# Altium footprint library CONN_HDR_2.54MM_RA_SMD.PcbLib: 56 footprints (part 4 of 4)
Each footprint in its own frame and in the unit in brackets; x right, y up, seen from the top. Pads: shape width x height; smd on the part's side, far side on the other; paste and mask are expansions set on the pad; w line width, h text height; cw(c..) or ccw(c..) is an arc to the next point about the centre after c.
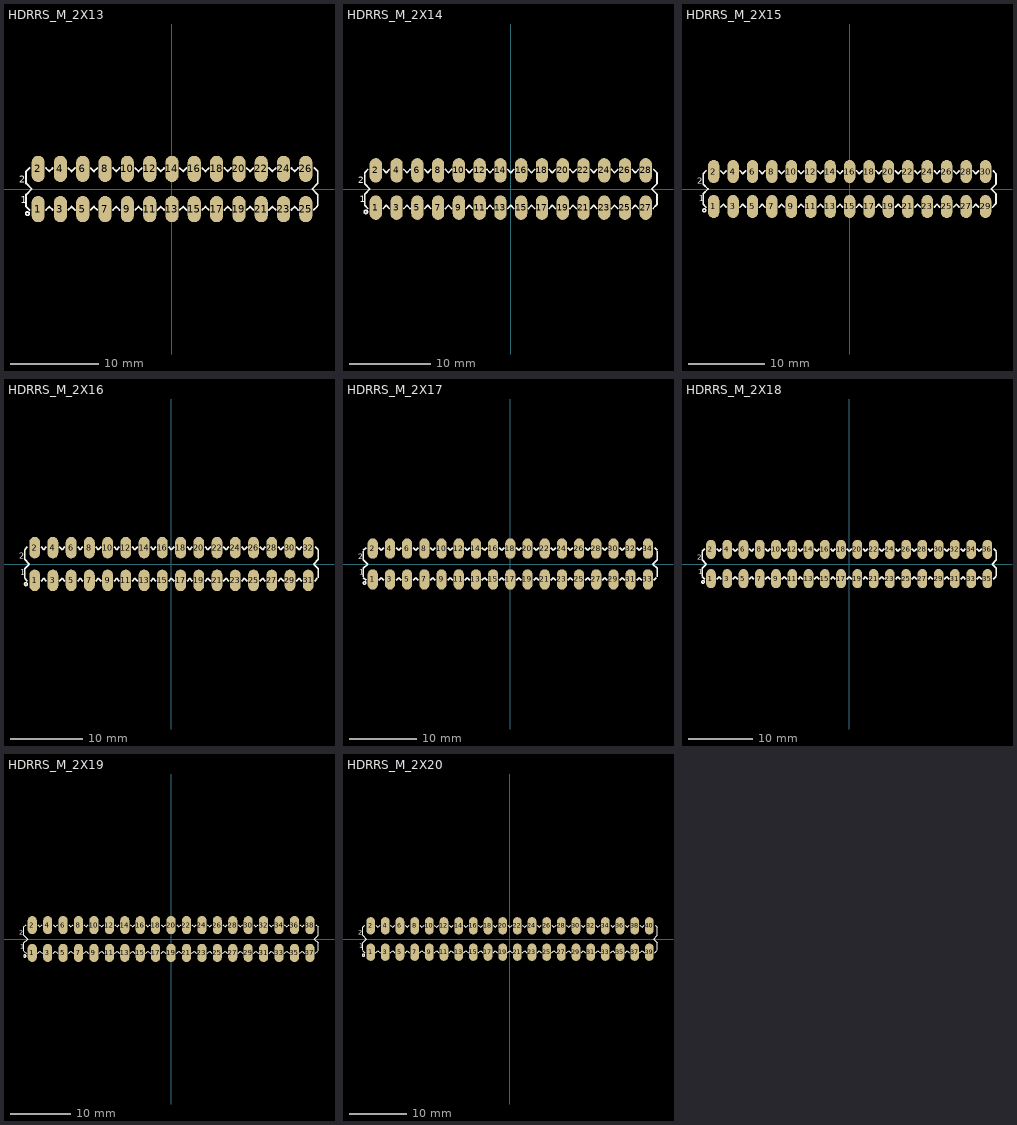
[diagram p3: the footprints below, top view; thin cyan lines are the x and y axes]

## HDRRS_M_2X13 [mm] "HEADER, 2.54mm, 2 Rows, Right Angle, Male, SMD"
pads (26):
  oval 1.5x3 smd: 1(-15.24,-2.286) 2(-15.24,2.286) 3(-12.7,-2.286) 4(-12.7,2.286) 5(-10.16,-2.286) 6(-10.16,2.286) 7(-7.62,-2.286) 8(-7.62,2.286) 9(-5.08,-2.286) 10(-5.08,2.286) 11(-2.54,-2.286) 12(-2.54,2.286) 13(0,-2.286) 14(0,2.286) 15(2.54,-2.286) 16(2.54,2.286) 17(5.08,-2.286) 18(5.08,2.286) 19(7.62,-2.286) 20(7.62,2.286) 21(10.16,-2.286) 22(10.16,2.286) 23(12.7,-2.286) 24(12.7,2.286) 25(15.24,-2.286) 26(15.24,2.286)
Top Overlay:
  circle w0.2: c-16.46,-2.8 r0.2
  lines w0.2: -16.61,-2.005 -16.237,-2.378 ; -16.61,-1.905 -16.61,-0.635 -15.975,0 -16.61,0.635 -16.61,1.905 ; -16.61,2.005 -16.237,2.378 ; -14.343,-2.378 -13.97,-2.005 -13.597,-2.378 ; -14.343,2.378 -13.97,2.005 -13.597,2.378 ; -11.803,-2.378 -11.43,-2.005 -11.057,-2.378 ; -11.803,2.378 -11.43,2.005 -11.057,2.378 ; -9.263,-2.378 -8.89,-2.005 -8.517,-2.378 ; -9.263,2.378 -8.89,2.005 -8.517,2.378 ; -6.723,-2.378 -6.35,-2.005 -5.977,-2.378 ; -6.723,2.378 -6.35,2.005 -5.977,2.378 ; -4.183,-2.378 -3.81,-2.005 -3.437,-2.378 ; -4.183,2.378 -3.81,2.005 -3.437,2.378 ; -1.643,-2.378 -1.27,-2.005 -0.897,-2.378 ; -1.643,2.378 -1.27,2.005 -0.897,2.378 ; 0.897,-2.378 1.27,-2.005 1.643,-2.378 ; 0.897,2.378 1.27,2.005 1.643,2.378 ; 3.437,-2.378 3.81,-2.005 4.183,-2.378 ; 3.437,2.378 3.81,2.005 4.183,2.378 ; 5.977,-2.378 6.35,-2.005 6.723,-2.378 ; 5.977,2.378 6.35,2.005 6.723,2.378 ; 8.517,-2.378 8.89,-2.005 9.263,-2.378 ; 8.517,2.378 8.89,2.005 9.263,2.378 ; 11.057,-2.378 11.43,-2.005 11.803,-2.378 ; 11.057,2.378 11.43,2.005 11.803,2.378 ; 13.597,-2.378 13.97,-2.005 14.343,-2.378 ; 13.597,2.378 13.97,2.005 14.343,2.378 ; 16.137,-2.378 16.51,-2.005 ; 16.237,2.378 16.61,2.005 ; 16.61,-1.905 16.61,-0.635 15.975,0 16.61,0.635 16.61,1.905
  text "2" at -17.42,0.7 h0.8
  text "1" at -17.22,-1.6 h0.8
3D body "BB02-TH081-X0X-060000.STEP": height 5, standoff 0, extent -16.49,-13.395 -6.33,2.795
3D body "BB02-TH061-X0X-060000.STEP": height 5, standoff 0, extent -6.331,-13.39 1.251,2.8
3D body "BB02-TH061-X0X-060000.STEP": height 5, standoff 0, extent 1.289,-13.39 8.871,2.8
3D body "BB02-TH061-X0X-060000.STEP": height 5, standoff 0, extent 8.909,-13.39 16.491,2.8

## HDRRS_M_2X14 [mm] "HEADER, 2.54mm, 2 Rows, Right Angle, Male, SMD"
pads (28):
  oval 1.5x3 smd: 1(-16.51,-2.286) 2(-16.51,2.286) 3(-13.97,-2.286) 4(-13.97,2.286) 5(-11.43,-2.286) 6(-11.43,2.286) 7(-8.89,-2.286) 8(-8.89,2.286) 9(-6.35,-2.286) 10(-6.35,2.286) 11(-3.81,-2.286) 12(-3.81,2.286) 13(-1.27,-2.286) 14(-1.27,2.286) 15(1.27,-2.286) 16(1.27,2.286) 17(3.81,-2.286) 18(3.81,2.286) 19(6.35,-2.286) 20(6.35,2.286) 21(8.89,-2.286) 22(8.89,2.286) 23(11.43,-2.286) 24(11.43,2.286) 25(13.97,-2.286) 26(13.97,2.286) 27(16.51,-2.286) 28(16.51,2.286)
Top Overlay:
  circle w0.2: c-17.73,-2.8 r0.2
  lines w0.2: -17.88,-2.005 -17.507,-2.378 ; -17.88,-1.905 -17.88,-0.635 -17.245,0 -17.88,0.635 -17.88,1.905 ; -17.88,2.005 -17.507,2.378 ; -15.613,-2.378 -15.24,-2.005 -14.867,-2.378 ; -15.613,2.378 -15.24,2.005 -14.867,2.378 ; -13.073,-2.378 -12.7,-2.005 -12.327,-2.378 ; -13.073,2.378 -12.7,2.005 -12.327,2.378 ; -10.533,-2.378 -10.16,-2.005 -9.787,-2.378 ; -10.533,2.378 -10.16,2.005 -9.787,2.378 ; -7.993,-2.378 -7.62,-2.005 -7.247,-2.378 ; -7.993,2.378 -7.62,2.005 -7.247,2.378 ; -5.453,-2.378 -5.08,-2.005 -4.707,-2.378 ; -5.453,2.378 -5.08,2.005 -4.707,2.378 ; -2.913,-2.378 -2.54,-2.005 -2.167,-2.378 ; -2.913,2.378 -2.54,2.005 -2.167,2.378 ; -0.373,-2.378 0,-2.005 0.373,-2.378 ; -0.373,2.378 0,2.005 0.373,2.378 ; 2.167,-2.378 2.54,-2.005 2.913,-2.378 ; 2.167,2.378 2.54,2.005 2.913,2.378 ; 4.707,-2.378 5.08,-2.005 5.453,-2.378 ; 4.707,2.378 5.08,2.005 5.453,2.378 ; 7.247,-2.378 7.62,-2.005 7.993,-2.378 ; 7.247,2.378 7.62,2.005 7.993,2.378 ; 9.787,-2.378 10.16,-2.005 10.533,-2.378 ; 9.787,2.378 10.16,2.005 10.533,2.378 ; 12.327,-2.378 12.7,-2.005 13.073,-2.378 ; 12.327,2.378 12.7,2.005 13.073,2.378 ; 14.867,-2.378 15.24,-2.005 15.613,-2.378 ; 14.867,2.378 15.24,2.005 15.613,2.378 ; 17.407,-2.378 17.78,-2.005 ; 17.507,2.378 17.88,2.005 ; 17.88,-1.905 17.88,-0.635 17.245,0 17.88,0.635 17.88,1.905
  text "1" at -18.49,-1.6 h0.8
  text "2" at -18.69,0.7 h0.8
3D body "BB02-TH081-X0X-060000.STEP": height 5, standoff 0, extent -7.6,-13.395 2.56,2.795
3D body "BB02-TH081-X0X-060000.STEP": height 5, standoff 0, extent -17.76,-13.395 -7.6,2.795
3D body "BB02-TH061-X0X-060000.STEP": height 5, standoff 0, extent 2.559,-13.39 10.141,2.8
3D body "BB02-TH061-X0X-060000.STEP": height 5, standoff 0, extent 10.179,-13.39 17.761,2.8

## HDRRS_M_2X15 [mm] "HEADER, 2.54mm, 2 Rows, Right Angle, Male, SMD"
pads (30):
  oval 1.5x3 smd: 1(-17.78,-2.286) 2(-17.78,2.286) 3(-15.24,-2.286) 4(-15.24,2.286) 5(-12.7,-2.286) 6(-12.7,2.286) 7(-10.16,-2.286) 8(-10.16,2.286) 9(-7.62,-2.286) 10(-7.62,2.286) 11(-5.08,-2.286) 12(-5.08,2.286) 13(-2.54,-2.286) 14(-2.54,2.286) 15(0,-2.286) 16(0,2.286) 17(2.54,-2.286) 18(2.54,2.286) 19(5.08,-2.286) 20(5.08,2.286) 21(7.62,-2.286) 22(7.62,2.286) 23(10.16,-2.286) 24(10.16,2.286) 25(12.7,-2.286) 26(12.7,2.286) 27(15.24,-2.286) 28(15.24,2.286) 29(17.78,-2.286) 30(17.78,2.286)
Top Overlay:
  circle w0.2: c-19,-2.8 r0.2
  lines w0.2: -19.15,-2.005 -18.777,-2.378 ; -19.15,-1.905 -19.15,-0.635 -18.515,0 -19.15,0.635 -19.15,1.905 ; -19.15,2.005 -18.777,2.378 ; -16.883,-2.378 -16.51,-2.005 -16.137,-2.378 ; -16.883,2.378 -16.51,2.005 -16.137,2.378 ; -14.343,-2.378 -13.97,-2.005 -13.597,-2.378 ; -14.343,2.378 -13.97,2.005 -13.597,2.378 ; -11.803,-2.378 -11.43,-2.005 -11.057,-2.378 ; -11.803,2.378 -11.43,2.005 -11.057,2.378 ; -9.263,-2.378 -8.89,-2.005 -8.517,-2.378 ; -9.263,2.378 -8.89,2.005 -8.517,2.378 ; -6.723,-2.378 -6.35,-2.005 -5.977,-2.378 ; -6.723,2.378 -6.35,2.005 -5.977,2.378 ; -4.183,-2.378 -3.81,-2.005 -3.437,-2.378 ; -4.183,2.378 -3.81,2.005 -3.437,2.378 ; -1.643,-2.378 -1.27,-2.005 -0.897,-2.378 ; -1.643,2.378 -1.27,2.005 -0.897,2.378 ; 0.897,-2.378 1.27,-2.005 1.643,-2.378 ; 0.897,2.378 1.27,2.005 1.643,2.378 ; 3.437,-2.378 3.81,-2.005 4.183,-2.378 ; 3.437,2.378 3.81,2.005 4.183,2.378 ; 5.977,-2.378 6.35,-2.005 6.723,-2.378 ; 5.977,2.378 6.35,2.005 6.723,2.378 ; 8.517,-2.378 8.89,-2.005 9.263,-2.378 ; 8.517,2.378 8.89,2.005 9.263,2.378 ; 11.057,-2.378 11.43,-2.005 11.803,-2.378 ; 11.057,2.378 11.43,2.005 11.803,2.378 ; 13.597,-2.378 13.97,-2.005 14.343,-2.378 ; 13.597,2.378 13.97,2.005 14.343,2.378 ; 16.137,-2.378 16.51,-2.005 16.883,-2.378 ; 16.137,2.378 16.51,2.005 16.883,2.378 ; 18.677,-2.378 19.05,-2.005 ; 18.777,2.378 19.15,2.005 ; 19.15,-1.905 19.15,-0.635 18.515,0 19.15,0.635 19.15,1.905
  text "1" at -19.76,-1.6 h0.8
  text "2" at -19.96,0.7 h0.8
3D body "BB02-TH081-X0X-060000.STEP": height 5, standoff 0, extent 1.29,-13.395 11.45,2.795
3D body "BB02-TH081-X0X-060000.STEP": height 5, standoff 0, extent -8.87,-13.395 1.29,2.795
3D body "BB02-TH081-X0X-060000.STEP": height 5, standoff 0, extent -19.03,-13.395 -8.87,2.795
3D body "BB02-TH061-X0X-060000.STEP": height 5, standoff 0, extent 11.449,-13.39 19.031,2.8

## HDRRS_M_2X16 [mm] "HEADER, 2.54mm, 2 Rows, Right Angle, Male, SMD"
pads (32):
  oval 1.5x3 smd: 1(-19.05,-2.286) 2(-19.05,2.286) 3(-16.51,-2.286) 4(-16.51,2.286) 5(-13.97,-2.286) 6(-13.97,2.286) 7(-11.43,-2.286) 8(-11.43,2.286) 9(-8.89,-2.286) 10(-8.89,2.286) 11(-6.35,-2.286) 12(-6.35,2.286) 13(-3.81,-2.286) 14(-3.81,2.286) 15(-1.27,-2.286) 16(-1.27,2.286) 17(1.27,-2.286) 18(1.27,2.286) 19(3.81,-2.286) 20(3.81,2.286) 21(6.35,-2.286) 22(6.35,2.286) 23(8.89,-2.286) 24(8.89,2.286) 25(11.43,-2.286) 26(11.43,2.286) 27(13.97,-2.286) 28(13.97,2.286) 29(16.51,-2.286) 30(16.51,2.286) 31(19.05,-2.286) 32(19.05,2.286)
Top Overlay:
  circle w0.2: c-20.27,-2.8 r0.2
  lines w0.2: -20.42,-2.005 -20.047,-2.378 ; -20.42,-1.905 -20.42,-0.635 -19.785,0 -20.42,0.635 -20.42,1.905 ; -20.42,2.005 -20.047,2.378 ; -18.153,-2.378 -17.78,-2.005 -17.407,-2.378 ; -18.153,2.378 -17.78,2.005 -17.407,2.378 ; -15.613,-2.378 -15.24,-2.005 -14.867,-2.378 ; -15.613,2.378 -15.24,2.005 -14.867,2.378 ; -13.073,-2.378 -12.7,-2.005 -12.327,-2.378 ; -13.073,2.378 -12.7,2.005 -12.327,2.378 ; -10.533,-2.378 -10.16,-2.005 -9.787,-2.378 ; -10.533,2.378 -10.16,2.005 -9.787,2.378 ; -7.993,-2.378 -7.62,-2.005 -7.247,-2.378 ; -7.993,2.378 -7.62,2.005 -7.247,2.378 ; -5.453,-2.378 -5.08,-2.005 -4.707,-2.378 ; -5.453,2.378 -5.08,2.005 -4.707,2.378 ; -2.913,-2.378 -2.54,-2.005 -2.167,-2.378 ; -2.913,2.378 -2.54,2.005 -2.167,2.378 ; -0.373,-2.378 0,-2.005 0.373,-2.378 ; -0.373,2.378 0,2.005 0.373,2.378 ; 2.167,-2.378 2.54,-2.005 2.913,-2.378 ; 2.167,2.378 2.54,2.005 2.913,2.378 ; 4.707,-2.378 5.08,-2.005 5.453,-2.378 ; 4.707,2.378 5.08,2.005 5.453,2.378 ; 7.247,-2.378 7.62,-2.005 7.993,-2.378 ; 7.247,2.378 7.62,2.005 7.993,2.378 ; 9.787,-2.378 10.16,-2.005 10.533,-2.378 ; 9.787,2.378 10.16,2.005 10.533,2.378 ; 12.327,-2.378 12.7,-2.005 13.073,-2.378 ; 12.327,2.378 12.7,2.005 13.073,2.378 ; 14.867,-2.378 15.24,-2.005 15.613,-2.378 ; 14.867,2.378 15.24,2.005 15.613,2.378 ; 17.407,-2.378 17.78,-2.005 18.153,-2.378 ; 17.407,2.378 17.78,2.005 18.153,2.378 ; 19.947,-2.378 20.32,-2.005 ; 20.047,2.378 20.42,2.005 ; 20.42,-1.905 20.42,-0.635 19.785,0 20.42,0.635 20.42,1.905
  text "1" at -21.03,-1.6 h0.8
  text "2" at -21.23,0.7 h0.8
3D body "BB02-TH081-X0X-060000.STEP": height 5, standoff 0, extent 10.18,-13.395 20.34,2.795
3D body "BB02-TH081-X0X-060000.STEP": height 5, standoff 0, extent 0.02,-13.395 10.18,2.795
3D body "BB02-TH081-X0X-060000.STEP": height 5, standoff 0, extent -10.14,-13.395 0.02,2.795
3D body "BB02-TH081-X0X-060000.STEP": height 5, standoff 0, extent -20.3,-13.395 -10.14,2.795

## HDRRS_M_2X17 [mm] "HEADER, 2.54mm, 2 Rows, Right Angle, Male, SMD"
pads (34):
  oval 1.5x3 smd: 1(-20.32,-2.286) 2(-20.32,2.286) 3(-17.78,-2.286) 4(-17.78,2.286) 5(-15.24,-2.286) 6(-15.24,2.286) 7(-12.7,-2.286) 8(-12.7,2.286) 9(-10.16,-2.286) 10(-10.16,2.286) 11(-7.62,-2.286) 12(-7.62,2.286) 13(-5.08,-2.286) 14(-5.08,2.286) 15(-2.54,-2.286) 16(-2.54,2.286) 17(0,-2.286) 18(0,2.286) 19(2.54,-2.286) 20(2.54,2.286) 21(5.08,-2.286) 22(5.08,2.286) 23(7.62,-2.286) 24(7.62,2.286) 25(10.16,-2.286) 26(10.16,2.286) 27(12.7,-2.286) 28(12.7,2.286) 29(15.24,-2.286) 30(15.24,2.286) 31(17.78,-2.286) 32(17.78,2.286) 33(20.32,-2.286) 34(20.32,2.286)
Top Overlay:
  circle w0.2: c-21.54,-2.8 r0.2
  lines w0.2: -21.69,-2.005 -21.317,-2.378 ; -21.69,-1.905 -21.69,-0.635 -21.055,0 -21.69,0.635 -21.69,1.905 ; -21.69,2.005 -21.317,2.378 ; -19.423,-2.378 -19.05,-2.005 -18.677,-2.378 ; -19.423,2.378 -19.05,2.005 -18.677,2.378 ; -16.883,-2.378 -16.51,-2.005 -16.137,-2.378 ; -16.883,2.378 -16.51,2.005 -16.137,2.378 ; -14.343,-2.378 -13.97,-2.005 -13.597,-2.378 ; -14.343,2.378 -13.97,2.005 -13.597,2.378 ; -11.803,-2.378 -11.43,-2.005 -11.057,-2.378 ; -11.803,2.378 -11.43,2.005 -11.057,2.378 ; -9.263,-2.378 -8.89,-2.005 -8.517,-2.378 ; -9.263,2.378 -8.89,2.005 -8.517,2.378 ; -6.723,-2.378 -6.35,-2.005 -5.977,-2.378 ; -6.723,2.378 -6.35,2.005 -5.977,2.378 ; -4.183,-2.378 -3.81,-2.005 -3.437,-2.378 ; -4.183,2.378 -3.81,2.005 -3.437,2.378 ; -1.643,-2.378 -1.27,-2.005 -0.897,-2.378 ; -1.643,2.378 -1.27,2.005 -0.897,2.378 ; 0.897,-2.378 1.27,-2.005 1.643,-2.378 ; 0.897,2.378 1.27,2.005 1.643,2.378 ; 3.437,-2.378 3.81,-2.005 4.183,-2.378 ; 3.437,2.378 3.81,2.005 4.183,2.378 ; 5.977,-2.378 6.35,-2.005 6.723,-2.378 ; 5.977,2.378 6.35,2.005 6.723,2.378 ; 8.517,-2.378 8.89,-2.005 9.263,-2.378 ; 8.517,2.378 8.89,2.005 9.263,2.378 ; 11.057,-2.378 11.43,-2.005 11.803,-2.378 ; 11.057,2.378 11.43,2.005 11.803,2.378 ; 13.597,-2.378 13.97,-2.005 14.343,-2.378 ; 13.597,2.378 13.97,2.005 14.343,2.378 ; 16.137,-2.378 16.51,-2.005 16.883,-2.378 ; 16.137,2.378 16.51,2.005 16.883,2.378 ; 18.677,-2.378 19.05,-2.005 19.423,-2.378 ; 18.677,2.378 19.05,2.005 19.423,2.378 ; 21.217,-2.378 21.59,-2.005 ; 21.317,2.378 21.69,2.005 ; 21.69,-1.905 21.69,-0.635 21.055,0 21.69,0.635 21.69,1.905
  text "1" at -22.3,-1.6 h0.8
  text "2" at -22.5,0.7 h0.8
3D body "BB02-TH081-X0X-060000.STEP": height 5, standoff 0, extent -11.41,-13.395 -1.25,2.795
3D body "BB02-TH081-X0X-060000.STEP": height 5, standoff 0, extent -21.57,-13.395 -11.41,2.795
3D body "BB02-TH061-X0X-060000.STEP": height 5, standoff 0, extent -1.251,-13.39 6.331,2.8
3D body "BB02-TH061-X0X-060000.STEP": height 5, standoff 0, extent 6.369,-13.39 13.951,2.8
3D body "BB02-TH061-X0X-060000.STEP": height 5, standoff 0, extent 13.989,-13.39 21.571,2.8

## HDRRS_M_2X18 [mm] "HEADER, 2.54mm, 2 Rows, Right Angle, Male, SMD"
pads (36):
  oval 1.5x3 smd: 1(-21.59,-2.286) 2(-21.59,2.286) 3(-19.05,-2.286) 4(-19.05,2.286) 5(-16.51,-2.286) 6(-16.51,2.286) 7(-13.97,-2.286) 8(-13.97,2.286) 9(-11.43,-2.286) 10(-11.43,2.286) 11(-8.89,-2.286) 12(-8.89,2.286) 13(-6.35,-2.286) 14(-6.35,2.286) 15(-3.81,-2.286) 16(-3.81,2.286) 17(-1.27,-2.286) 18(-1.27,2.286) 19(1.27,-2.286) 20(1.27,2.286) 21(3.81,-2.286) 22(3.81,2.286) 23(6.35,-2.286) 24(6.35,2.286) 25(8.89,-2.286) 26(8.89,2.286) 27(11.43,-2.286) 28(11.43,2.286) 29(13.97,-2.286) 30(13.97,2.286) 31(16.51,-2.286) 32(16.51,2.286) 33(19.05,-2.286) 34(19.05,2.286) 35(21.59,-2.286) 36(21.59,2.286)
Top Overlay:
  circle w0.2: c-22.81,-2.8 r0.2
  lines w0.2: -22.96,-2.005 -22.587,-2.378 ; -22.96,-1.905 -22.96,-0.635 -22.325,0 -22.96,0.635 -22.96,1.905 ; -22.96,2.005 -22.587,2.378 ; -20.693,-2.378 -20.32,-2.005 -19.947,-2.378 ; -20.693,2.378 -20.32,2.005 -19.947,2.378 ; -18.153,-2.378 -17.78,-2.005 -17.407,-2.378 ; -18.153,2.378 -17.78,2.005 -17.407,2.378 ; -15.613,-2.378 -15.24,-2.005 -14.867,-2.378 ; -15.613,2.378 -15.24,2.005 -14.867,2.378 ; -13.073,-2.378 -12.7,-2.005 -12.327,-2.378 ; -13.073,2.378 -12.7,2.005 -12.327,2.378 ; -10.533,-2.378 -10.16,-2.005 -9.787,-2.378 ; -10.533,2.378 -10.16,2.005 -9.787,2.378 ; -7.993,-2.378 -7.62,-2.005 -7.247,-2.378 ; -7.993,2.378 -7.62,2.005 -7.247,2.378 ; -5.453,-2.378 -5.08,-2.005 -4.707,-2.378 ; -5.453,2.378 -5.08,2.005 -4.707,2.378 ; -2.913,-2.378 -2.54,-2.005 -2.167,-2.378 ; -2.913,2.378 -2.54,2.005 -2.167,2.378 ; -0.373,-2.378 0,-2.005 0.373,-2.378 ; -0.373,2.378 0,2.005 0.373,2.378 ; 2.167,-2.378 2.54,-2.005 2.913,-2.378 ; 2.167,2.378 2.54,2.005 2.913,2.378 ; 4.707,-2.378 5.08,-2.005 5.453,-2.378 ; 4.707,2.378 5.08,2.005 5.453,2.378 ; 7.247,-2.378 7.62,-2.005 7.993,-2.378 ; 7.247,2.378 7.62,2.005 7.993,2.378 ; 9.787,-2.378 10.16,-2.005 10.533,-2.378 ; 9.787,2.378 10.16,2.005 10.533,2.378 ; 12.327,-2.378 12.7,-2.005 13.073,-2.378 ; 12.327,2.378 12.7,2.005 13.073,2.378 ; 14.867,-2.378 15.24,-2.005 15.613,-2.378 ; 14.867,2.378 15.24,2.005 15.613,2.378 ; 17.407,-2.378 17.78,-2.005 18.153,-2.378 ; 17.407,2.378 17.78,2.005 18.153,2.378 ; 19.947,-2.378 20.32,-2.005 20.693,-2.378 ; 19.947,2.378 20.32,2.005 20.693,2.378 ; 22.487,-2.378 22.86,-2.005 ; 22.587,2.378 22.96,2.005 ; 22.96,-1.905 22.96,-0.635 22.325,0 22.96,0.635 22.96,1.905
  text "1" at -23.57,-1.6 h0.8
  text "2" at -23.77,0.7 h0.8
3D body "BB02-TH081-X0X-060000.STEP": height 5, standoff 0, extent -2.52,-13.395 7.64,2.795
3D body "BB02-TH081-X0X-060000.STEP": height 5, standoff 0, extent -12.68,-13.395 -2.52,2.795
3D body "BB02-TH081-X0X-060000.STEP": height 5, standoff 0, extent -22.84,-13.395 -12.68,2.795
3D body "BB02-TH061-X0X-060000.STEP": height 5, standoff 0, extent 7.639,-13.39 15.221,2.8
3D body "BB02-TH061-X0X-060000.STEP": height 5, standoff 0, extent 15.259,-13.39 22.841,2.8

## HDRRS_M_2X19 [mm] "HEADER, 2.54mm, 2 Rows, Right Angle, Male, SMD"
pads (38):
  oval 1.5x3 smd: 1(-22.86,-2.286) 2(-22.86,2.286) 3(-20.32,-2.286) 4(-20.32,2.286) 5(-17.78,-2.286) 6(-17.78,2.286) 7(-15.24,-2.286) 8(-15.24,2.286) 9(-12.7,-2.286) 10(-12.7,2.286) 11(-10.16,-2.286) 12(-10.16,2.286) 13(-7.62,-2.286) 14(-7.62,2.286) 15(-5.08,-2.286) 16(-5.08,2.286) 17(-2.54,-2.286) 18(-2.54,2.286) 19(0,-2.286) 20(0,2.286) 21(2.54,-2.286) 22(2.54,2.286) 23(5.08,-2.286) 24(5.08,2.286) 25(7.62,-2.286) 26(7.62,2.286) 27(10.16,-2.286) 28(10.16,2.286) 29(12.7,-2.286) 30(12.7,2.286) 31(15.24,-2.286) 32(15.24,2.286) 33(17.78,-2.286) 34(17.78,2.286) 35(20.32,-2.286) 36(20.32,2.286) 37(22.86,-2.286) 38(22.86,2.286)
Top Overlay:
  circle w0.2: c-24.08,-2.8 r0.2
  lines w0.2: -24.23,-2.005 -23.857,-2.378 ; -24.23,-1.905 -24.23,-0.635 -23.595,0 -24.23,0.635 -24.23,1.905 ; -24.23,2.005 -23.857,2.378 ; -21.963,-2.378 -21.59,-2.005 -21.217,-2.378 ; -21.963,2.378 -21.59,2.005 -21.217,2.378 ; -19.423,-2.378 -19.05,-2.005 -18.677,-2.378 ; -19.423,2.378 -19.05,2.005 -18.677,2.378 ; -16.883,-2.378 -16.51,-2.005 -16.137,-2.378 ; -16.883,2.378 -16.51,2.005 -16.137,2.378 ; -14.343,-2.378 -13.97,-2.005 -13.597,-2.378 ; -14.343,2.378 -13.97,2.005 -13.597,2.378 ; -11.803,-2.378 -11.43,-2.005 -11.057,-2.378 ; -11.803,2.378 -11.43,2.005 -11.057,2.378 ; -9.263,-2.378 -8.89,-2.005 -8.517,-2.378 ; -9.263,2.378 -8.89,2.005 -8.517,2.378 ; -6.723,-2.378 -6.35,-2.005 -5.977,-2.378 ; -6.723,2.378 -6.35,2.005 -5.977,2.378 ; -4.183,-2.378 -3.81,-2.005 -3.437,-2.378 ; -4.183,2.378 -3.81,2.005 -3.437,2.378 ; -1.643,-2.378 -1.27,-2.005 -0.897,-2.378 ; -1.643,2.378 -1.27,2.005 -0.897,2.378 ; 0.897,-2.378 1.27,-2.005 1.643,-2.378 ; 0.897,2.378 1.27,2.005 1.643,2.378 ; 3.437,-2.378 3.81,-2.005 4.183,-2.378 ; 3.437,2.378 3.81,2.005 4.183,2.378 ; 5.977,-2.378 6.35,-2.005 6.723,-2.378 ; 5.977,2.378 6.35,2.005 6.723,2.378 ; 8.517,-2.378 8.89,-2.005 9.263,-2.378 ; 8.517,2.378 8.89,2.005 9.263,2.378 ; 11.057,-2.378 11.43,-2.005 11.803,-2.378 ; 11.057,2.378 11.43,2.005 11.803,2.378 ; 13.597,-2.378 13.97,-2.005 14.343,-2.378 ; 13.597,2.378 13.97,2.005 14.343,2.378 ; 16.137,-2.378 16.51,-2.005 16.883,-2.378 ; 16.137,2.378 16.51,2.005 16.883,2.378 ; 18.677,-2.378 19.05,-2.005 19.423,-2.378 ; 18.677,2.378 19.05,2.005 19.423,2.378 ; 21.217,-2.378 21.59,-2.005 21.963,-2.378 ; 21.217,2.378 21.59,2.005 21.963,2.378 ; 23.757,-2.378 24.13,-2.005 ; 23.857,2.378 24.23,2.005 ; 24.23,-1.905 24.23,-0.635 23.595,0 24.23,0.635 24.23,1.905
  text "2" at -25.04,0.7 h0.8
  text "1" at -24.84,-1.6 h0.8
3D body "BB02-TH061-X0X-060000.STEP": height 5, standoff 0, extent 16.529,-13.39 24.111,2.8
3D body "BB02-TH081-X0X-060000.STEP": height 5, standoff 0, extent -24.11,-13.395 -13.95,2.795
3D body "BB02-TH081-X0X-060000.STEP": height 5, standoff 0, extent -13.95,-13.395 -3.79,2.795
3D body "BB02-TH081-X0X-060000.STEP": height 5, standoff 0, extent -3.79,-13.395 6.37,2.795
3D body "BB02-TH081-X0X-060000.STEP": height 5, standoff 0, extent 6.37,-13.395 16.53,2.795

## HDRRS_M_2X20 [mm] "HEADER, 2.54mm, 2 Rows, Right Angle, Male, SMD"
pads (40):
  oval 1.5x3 smd: 1(-24.13,-2.286) 2(-24.13,2.286) 3(-21.59,-2.286) 4(-21.59,2.286) 5(-19.05,-2.286) 6(-19.05,2.286) 7(-16.51,-2.286) 8(-16.51,2.286) 9(-13.97,-2.286) 10(-13.97,2.286) 11(-11.43,-2.286) 12(-11.43,2.286) 13(-8.89,-2.286) 14(-8.89,2.286) 15(-6.35,-2.286) 16(-6.35,2.286) 17(-3.81,-2.286) 18(-3.81,2.286) 19(-1.27,-2.286) 20(-1.27,2.286) 21(1.27,-2.286) 22(1.27,2.286) 23(3.81,-2.286) 24(3.81,2.286) 25(6.35,-2.286) 26(6.35,2.286) 27(8.89,-2.286) 28(8.89,2.286) 29(11.43,-2.286) 30(11.43,2.286) 31(13.97,-2.286) 32(13.97,2.286) 33(16.51,-2.286) 34(16.51,2.286) 35(19.05,-2.286) 36(19.05,2.286) 37(21.59,-2.286) 38(21.59,2.286) 39(24.13,-2.286) 40(24.13,2.286)
Top Overlay:
  circle w0.2: c-25.35,-2.8 r0.2
  lines w0.2: -25.5,-2.005 -25.127,-2.378 ; -25.5,-1.905 -25.5,-0.635 -24.865,0 -25.5,0.635 -25.5,1.905 ; -25.5,2.005 -25.127,2.378 ; -23.233,-2.378 -22.86,-2.005 -22.487,-2.378 ; -23.233,2.378 -22.86,2.005 -22.487,2.378 ; -20.693,-2.378 -20.32,-2.005 -19.947,-2.378 ; -20.693,2.378 -20.32,2.005 -19.947,2.378 ; -18.153,-2.378 -17.78,-2.005 -17.407,-2.378 ; -18.153,2.378 -17.78,2.005 -17.407,2.378 ; -15.613,-2.378 -15.24,-2.005 -14.867,-2.378 ; -15.613,2.378 -15.24,2.005 -14.867,2.378 ; -13.073,-2.378 -12.7,-2.005 -12.327,-2.378 ; -13.073,2.378 -12.7,2.005 -12.327,2.378 ; -10.533,-2.378 -10.16,-2.005 -9.787,-2.378 ; -10.533,2.378 -10.16,2.005 -9.787,2.378 ; -7.993,-2.378 -7.62,-2.005 -7.247,-2.378 ; -7.993,2.378 -7.62,2.005 -7.247,2.378 ; -5.453,-2.378 -5.08,-2.005 -4.707,-2.378 ; -5.453,2.378 -5.08,2.005 -4.707,2.378 ; -2.913,-2.378 -2.54,-2.005 -2.167,-2.378 ; -2.913,2.378 -2.54,2.005 -2.167,2.378 ; -0.373,-2.378 0,-2.005 0.373,-2.378 ; -0.373,2.378 0,2.005 0.373,2.378 ; 2.167,-2.378 2.54,-2.005 2.913,-2.378 ; 2.167,2.378 2.54,2.005 2.913,2.378 ; 4.707,-2.378 5.08,-2.005 5.453,-2.378 ; 4.707,2.378 5.08,2.005 5.453,2.378 ; 7.247,-2.378 7.62,-2.005 7.993,-2.378 ; 7.247,2.378 7.62,2.005 7.993,2.378 ; 9.787,-2.378 10.16,-2.005 10.533,-2.378 ; 9.787,2.378 10.16,2.005 10.533,2.378 ; 12.327,-2.378 12.7,-2.005 13.073,-2.378 ; 12.327,2.378 12.7,2.005 13.073,2.378 ; 14.867,-2.378 15.24,-2.005 15.613,-2.378 ; 14.867,2.378 15.24,2.005 15.613,2.378 ; 17.407,-2.378 17.78,-2.005 18.153,-2.378 ; 17.407,2.378 17.78,2.005 18.153,2.378 ; 19.947,-2.378 20.32,-2.005 20.693,-2.378 ; 19.947,2.378 20.32,2.005 20.693,2.378 ; 22.487,-2.378 22.86,-2.005 23.233,-2.378 ; 22.487,2.378 22.86,2.005 23.233,2.378 ; 25.027,-2.378 25.4,-2.005 ; 25.127,2.378 25.5,2.005 ; 25.5,-1.905 25.5,-0.635 24.865,0 25.5,0.635 25.5,1.905
  text "1" at -26.11,-1.6 h0.8
  text "2" at -26.31,0.7 h0.8
3D body "BB02-TH081-X0X-060000.STEP": height 5, standoff 0, extent 15.26,-13.395 25.42,2.795
3D body "BB02-TH081-X0X-060000.STEP": height 5, standoff 0, extent 5.1,-13.395 15.26,2.795
3D body "BB02-TH081-X0X-060000.STEP": height 5, standoff 0, extent -5.06,-13.395 5.1,2.795
3D body "BB02-TH081-X0X-060000.STEP": height 5, standoff 0, extent -15.22,-13.395 -5.06,2.795
3D body "BB02-TH081-X0X-060000.STEP": height 5, standoff 0, extent -25.38,-13.395 -15.22,2.795